# Altium schematic symbol library LDO_Micrel_MIC94325YMTTR.SchLib: 1 symbol
Pins are listed as number, name and electrical type; pins without a type are passive.

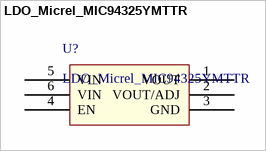
[diagram p0: symbol LDO_Micrel_MIC94325YMTTR]

## LDO_Micrel_MIC94325YMTTR
designator U?
pins: 1 VOUT, 2 VOUT/ADJ, 3 GND, 4 EN, 5 VIN, 6 VIN